# Altium integrated library Maxim Digital Potentiometers.IntLib: 1045 symbols (part 4 of 42)
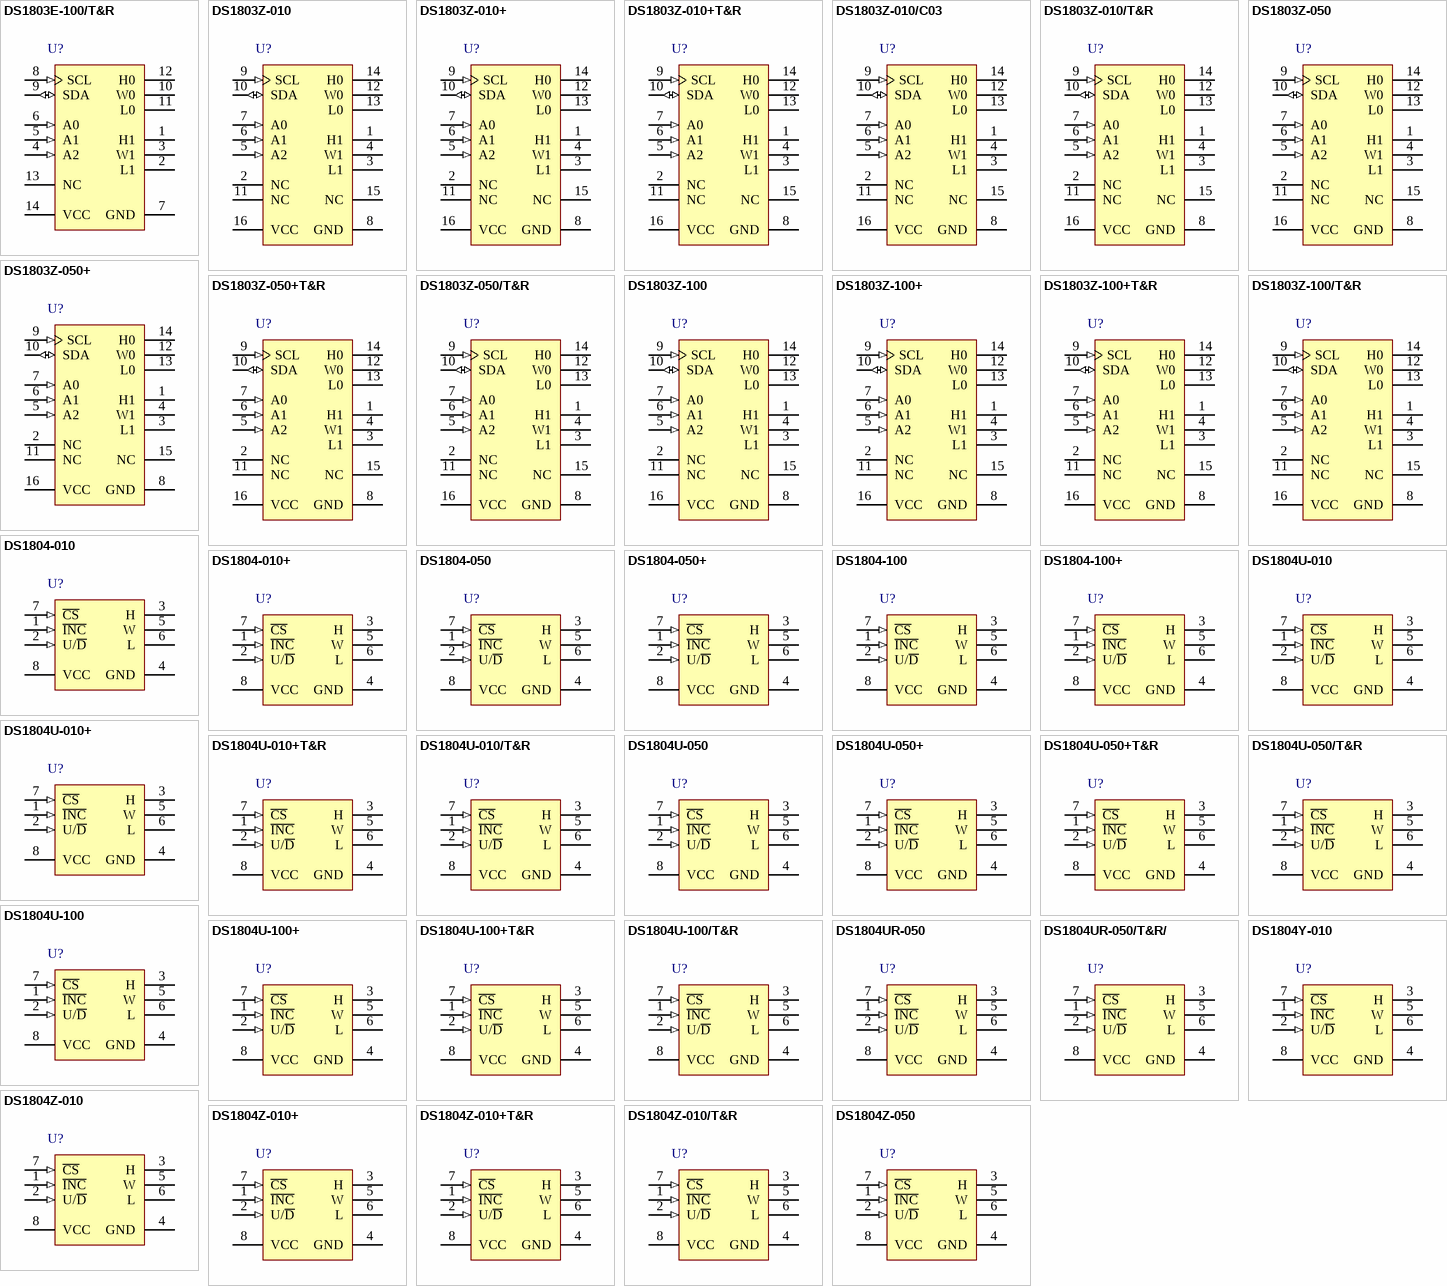
[diagram p32: symbols DS1803E-100/T&R to DS1804Z-050]

## DS1804U-050+
designator U?
NV Trimmer Potentiometer with Up/Down Control Interface, Non-Volatile, Linear Taper, 100 Steps, -40 to 85 degC, 8-pin uMAX (U8+3), Pb-Free; PartNumber: DS1804U-050+; DatasheetVersion: Rev. 6; PackageVersion: Rev. L, 08/2009; PackageReference: U8+3; PackageDescription: 8-Pin Micro-MAX, Thin Shrink Small-Outline (U8+3), Body 3 x 3 mm, Pitch 0.65 mm; Supplier 1: Digi-Key; Supplier Part Number 1: DS1804U-050+-ND; Supplier 2: Newark; Supplier Part Number 2: 32K5643; Supplier 3: Mouser; Supplier Part Number 3: 700-DS1804U-050; Control Interface: Up/Down; Features: EEPROM Wiper Memory; Mounting Technology: Surface Mount; Code_JEDEC: MO-187; ComponentLink1Description: Manufacturer URL; ComponentLink1URL: http://www.maximintegrated.com/; ComponentLink2Description: Datasheet; ComponentLink2URL: http://datasheets.maximintegrated.com/en/ds/DS1804.pdf; ComponentLink3Description: Package Specification; ComponentLink3URL: http://pdfserv.maximintegrated.com/package_dwgs/21-0036.PDF
footprint MAXM-U8+3_N (SOP, 8-Leads, Body 3x3mm, Pitch 0.65mm, IPC Medium Density)
footprint MAXM-U8+3_L (SOP, 8-Leads, Body 3x3mm, Pitch 0.65mm, IPC High Density)
footprint MAXM-U8+3_M (SOP, 8-Leads, Body 3x3mm, Pitch 0.65mm, IPC Low Density)
pins: 1 ~{INC} (in) "Increment/Decrement Wiper Control", 2 U/~{D} (in) "Up/Down Control", 3 H "High-Terminal of Potentiometer", 4 GND (power) "Ground", 5 W "Wiper of Potentiometer", 6 L "Low-Terminal of Potentiometer", 7 ~{CS} (in) "Chip Select", 8 VCC (power) "3V or 5V Power Supply"

## DS1804U-050+T&R
designator U?
NV Trimmer Potentiometer with Up/Down Control Interface, Non-Volatile, Linear Taper, 100 Steps, -40 to 85 degC, 8-pin uMAX (U8+3), Pb-Free, Tape and Reel; PartNumber: DS1804U-050+T&R; DatasheetVersion: Rev. 6; PackageVersion: Rev. L, 08/2009; PackageReference: U8+3; PackageDescription: 8-Pin Micro-MAX, Thin Shrink Small-Outline (U8+3), Body 3 x 3 mm, Pitch 0.65 mm; Supplier 1: Digi-Key; Supplier Part Number 1: DS1804U-050+T&R-ND; Supplier 2: Mouser; Supplier Part Number 2: 700-DS1804U-050T&R; Control Interface: Up/Down; Features: EEPROM Wiper Memory; Mounting Technology: Surface Mount; Code_JEDEC: MO-187; ComponentLink1Description: Manufacturer URL; ComponentLink1URL: http://www.maximintegrated.com/; ComponentLink2Description: Datasheet; ComponentLink2URL: http://datasheets.maximintegrated.com/en/ds/DS1804.pdf; ComponentLink3Description: Package Specification; ComponentLink3URL: http://pdfserv.maximintegrated.com/package_dwgs/21-0036.PDF
footprint MAXM-U8+3_N (SOP, 8-Leads, Body 3x3mm, Pitch 0.65mm, IPC Medium Density)
footprint MAXM-U8+3_L (SOP, 8-Leads, Body 3x3mm, Pitch 0.65mm, IPC High Density)
footprint MAXM-U8+3_M (SOP, 8-Leads, Body 3x3mm, Pitch 0.65mm, IPC Low Density)
pins: 1 ~{INC} (in) "Increment/Decrement Wiper Control", 2 U/~{D} (in) "Up/Down Control", 3 H "High-Terminal of Potentiometer", 4 GND (power) "Ground", 5 W "Wiper of Potentiometer", 6 L "Low-Terminal of Potentiometer", 7 ~{CS} (in) "Chip Select", 8 VCC (power) "3V or 5V Power Supply"

## DS1804U-050/T&R
designator U?
NV Trimmer Potentiometer with Up/Down Control Interface, Non-Volatile, Linear Taper, 100 Steps, -40 to 85 degC, 8-pin uMAX (U8-3), Tape and Reel; PartNumber: DS1804U-050/T&R; DatasheetVersion: Rev. 6; PackageVersion: Rev. L, 08/2009; PackageReference: U8-3; PackageDescription: 8-Pin Micro-MAX, Thin Shrink Small-Outline (U8-3), Body 3 x 3 mm, Pitch 0.65 mm; Supplier 1: Digi-Key; Supplier Part Number 1: DS1804U-050/T&R-ND; Supplier 2: Mouser; Supplier Part Number 2: N/A; Control Interface: Up/Down; Features: EEPROM Wiper Memory; Mounting Technology: Surface Mount; Code_JEDEC: MO-187; ComponentLink1Description: Manufacturer URL; ComponentLink1URL: http://www.maximintegrated.com/; ComponentLink2Description: Datasheet; ComponentLink2URL: http://datasheets.maximintegrated.com/en/ds/DS1804.pdf; ComponentLink3Description: Package Specification; ComponentLink3URL: http://pdfserv.maximintegrated.com/package_dwgs/21-0036.PDF
footprint MAXM-U8-3_N (SOP, 8-Leads, Body 3x3mm, Pitch 0.65mm, IPC Medium Density)
footprint MAXM-U8-3_L (SOP, 8-Leads, Body 3x3mm, Pitch 0.65mm, IPC High Density)
footprint MAXM-U8-3_M (SOP, 8-Leads, Body 3x3mm, Pitch 0.65mm, IPC Low Density)
pins: 1 ~{INC} (in) "Increment/Decrement Wiper Control", 2 U/~{D} (in) "Up/Down Control", 3 H "High-Terminal of Potentiometer", 4 GND (power) "Ground", 5 W "Wiper of Potentiometer", 6 L "Low-Terminal of Potentiometer", 7 ~{CS} (in) "Chip Select", 8 VCC (power) "3V or 5V Power Supply"

## DS1804U-100
designator U?
NV Trimmer Potentiometer with Up/Down Control Interface, Non-Volatile, Linear Taper, 100 Steps, -40 to 85 degC, 8-pin uMAX (U8-3); PartNumber: DS1804U-100; DatasheetVersion: Rev. 6; PackageVersion: Rev. L, 08/2009; PackageReference: U8-3; PackageDescription: 8-Pin Micro-MAX, Thin Shrink Small-Outline (U8-3), Body 3 x 3 mm, Pitch 0.65 mm; Supplier 1: Digi-Key; Supplier Part Number 1: DS1804U-100-ND; Supplier 2: Mouser; Supplier Part Number 2: N/A; Control Interface: Up/Down; Features: EEPROM Wiper Memory; Mounting Technology: Surface Mount; Code_JEDEC: MO-187; ComponentLink1Description: Manufacturer URL; ComponentLink1URL: http://www.maximintegrated.com/; ComponentLink2Description: Datasheet; ComponentLink2URL: http://datasheets.maximintegrated.com/en/ds/DS1804.pdf; ComponentLink3Description: Package Specification; ComponentLink3URL: http://pdfserv.maximintegrated.com/package_dwgs/21-0036.PDF
footprint MAXM-U8-3_N (SOP, 8-Leads, Body 3x3mm, Pitch 0.65mm, IPC Medium Density)
footprint MAXM-U8-3_L (SOP, 8-Leads, Body 3x3mm, Pitch 0.65mm, IPC High Density)
footprint MAXM-U8-3_M (SOP, 8-Leads, Body 3x3mm, Pitch 0.65mm, IPC Low Density)
pins: 1 ~{INC} (in) "Increment/Decrement Wiper Control", 2 U/~{D} (in) "Up/Down Control", 3 H "High-Terminal of Potentiometer", 4 GND (power) "Ground", 5 W "Wiper of Potentiometer", 6 L "Low-Terminal of Potentiometer", 7 ~{CS} (in) "Chip Select", 8 VCC (power) "3V or 5V Power Supply"

## DS1804U-100+
designator U?
NV Trimmer Potentiometer with Up/Down Control Interface, Non-Volatile, Linear Taper, 100 Steps, -40 to 85 degC, 8-pin uMAX (U8+1), Pb-Free; PartNumber: DS1804U-100+; DatasheetVersion: Rev. 6; PackageVersion: Rev. L, 08/2009; PackageReference: U8+1; PackageDescription: 8-Pin Micro-MAX, Thin Shrink Small-Outline (U8+1), Body 3 x 3 mm, Pitch 0.65 mm; Supplier 1: Digi-Key; Supplier Part Number 1: DS1804U-100+-ND; Supplier 2: Newark; Supplier Part Number 2: 73J0109; Supplier 3: Mouser; Supplier Part Number 3: 700-DS1804U-100; Control Interface: Up/Down; Features: EEPROM Wiper Memory; Mounting Technology: Surface Mount; Code_JEDEC: MO-187; ComponentLink1Description: Manufacturer URL; ComponentLink1URL: http://www.maximintegrated.com/; ComponentLink2Description: Datasheet; ComponentLink2URL: http://datasheets.maximintegrated.com/en/ds/DS1804.pdf; ComponentLink3Description: Package Specification; ComponentLink3URL: http://pdfserv.maximintegrated.com/package_dwgs/21-0036.PDF
footprint MAXM-U8+1_N (SOP, 8-Leads, Body 3x3mm, Pitch 0.65mm, IPC Medium Density)
footprint MAXM-U8+1_L (SOP, 8-Leads, Body 3x3mm, Pitch 0.65mm, IPC High Density)
footprint MAXM-U8+1_M (SOP, 8-Leads, Body 3x3mm, Pitch 0.65mm, IPC Low Density)
pins: 1 ~{INC} (in) "Increment/Decrement Wiper Control", 2 U/~{D} (in) "Up/Down Control", 3 H "High-Terminal of Potentiometer", 4 GND (power) "Ground", 5 W "Wiper of Potentiometer", 6 L "Low-Terminal of Potentiometer", 7 ~{CS} (in) "Chip Select", 8 VCC (power) "3V or 5V Power Supply"

## DS1804U-100+T&R
designator U?
NV Trimmer Potentiometer with Up/Down Control Interface, Non-Volatile, Linear Taper, 100 Steps, -40 to 85 degC, 8-pin uMAX (U8+1), Pb-Free, Tape and Reel; PartNumber: DS1804U-100+T&R; DatasheetVersion: Rev. 6; PackageVersion: Rev. L, 08/2009; PackageReference: U8+1; PackageDescription: 8-Pin Micro-MAX, Thin Shrink Small-Outline (U8+1), Body 3 x 3 mm, Pitch 0.65 mm; Supplier 1: Digi-Key; Supplier Part Number 1: DS1804U-100+T&R-ND; Supplier 2: Mouser; Supplier Part Number 2: 700-DS1804U-100T&R; Control Interface: Up/Down; Features: EEPROM Wiper Memory; Mounting Technology: Surface Mount; Code_JEDEC: MO-187; ComponentLink1Description: Manufacturer URL; ComponentLink1URL: http://www.maximintegrated.com/; ComponentLink2Description: Datasheet; ComponentLink2URL: http://datasheets.maximintegrated.com/en/ds/DS1804.pdf; ComponentLink3Description: Package Specification; ComponentLink3URL: http://pdfserv.maximintegrated.com/package_dwgs/21-0036.PDF
footprint MAXM-U8+1_N (SOP, 8-Leads, Body 3x3mm, Pitch 0.65mm, IPC Medium Density)
footprint MAXM-U8+1_L (SOP, 8-Leads, Body 3x3mm, Pitch 0.65mm, IPC High Density)
footprint MAXM-U8+1_M (SOP, 8-Leads, Body 3x3mm, Pitch 0.65mm, IPC Low Density)
pins: 1 ~{INC} (in) "Increment/Decrement Wiper Control", 2 U/~{D} (in) "Up/Down Control", 3 H "High-Terminal of Potentiometer", 4 GND (power) "Ground", 5 W "Wiper of Potentiometer", 6 L "Low-Terminal of Potentiometer", 7 ~{CS} (in) "Chip Select", 8 VCC (power) "3V or 5V Power Supply"

## DS1804U-100/T&R
designator U?
NV Trimmer Potentiometer with Up/Down Control Interface, Non-Volatile, Linear Taper, 100 Steps, -40 to 85 degC, 8-pin uMAX (U8-3), Tape and Reel; PartNumber: DS1804U-100/T&R; DatasheetVersion: Rev. 6; PackageVersion: Rev. L, 08/2009; PackageReference: U8-3; PackageDescription: 8-Pin Micro-MAX, Thin Shrink Small-Outline (U8-3), Body 3 x 3 mm, Pitch 0.65 mm; Supplier 1: Digi-Key; Supplier Part Number 1: DS1804U-100/T&R-ND; Supplier 2: Mouser; Supplier Part Number 2: 700-DS1804U-100/TRNR; Control Interface: Up/Down; Features: EEPROM Wiper Memory; Mounting Technology: Surface Mount; Code_JEDEC: MO-187; ComponentLink1Description: Manufacturer URL; ComponentLink1URL: http://www.maximintegrated.com/; ComponentLink2Description: Datasheet; ComponentLink2URL: http://datasheets.maximintegrated.com/en/ds/DS1804.pdf; ComponentLink3Description: Package Specification; ComponentLink3URL: http://pdfserv.maximintegrated.com/package_dwgs/21-0036.PDF
footprint MAXM-U8-3_N (SOP, 8-Leads, Body 3x3mm, Pitch 0.65mm, IPC Medium Density)
footprint MAXM-U8-3_L (SOP, 8-Leads, Body 3x3mm, Pitch 0.65mm, IPC High Density)
footprint MAXM-U8-3_M (SOP, 8-Leads, Body 3x3mm, Pitch 0.65mm, IPC Low Density)
pins: 1 ~{INC} (in) "Increment/Decrement Wiper Control", 2 U/~{D} (in) "Up/Down Control", 3 H "High-Terminal of Potentiometer", 4 GND (power) "Ground", 5 W "Wiper of Potentiometer", 6 L "Low-Terminal of Potentiometer", 7 ~{CS} (in) "Chip Select", 8 VCC (power) "3V or 5V Power Supply"

## DS1804UR-050
designator U?
NV Trimmer Potentiometer with Up/Down Control Interface, Non-Volatile, Linear Taper, 100 Steps, -40 to 85 degC, 8-pin uMAX (U8-1); PartNumber: DS1804UR-050; DatasheetVersion: Rev. 6; PackageVersion: Rev. L, 08/2009; PackageReference: U8-1; PackageDescription: 8-Pin Micro-MAX, Thin Shrink Small-Outline (U8-1), Body 3 x 3 mm, Pitch 0.65mm; Supplier 1: Digi-Key; Supplier Part Number 1: DS1804UR-050-ND; Supplier 2: Mouser; Supplier Part Number 2: N/A; Control Interface: Up/Down; Features: EEPROM Wiper Memory; Mounting Technology: Surface Mount; Code_JEDEC: MO-187; ComponentLink1Description: Manufacturer URL; ComponentLink1URL: http://www.maximintegrated.com/; ComponentLink2Description: Datasheet; ComponentLink2URL: http://datasheets.maximintegrated.com/en/ds/DS1804.pdf; ComponentLink3Description: Package Specification; ComponentLink3URL: http://pdfserv.maximintegrated.com/package_dwgs/21-0036.PDF
footprint MAXM-U8-1_N (SOP, 8-Leads, Body 3x3mm, Pitch 0.65mm, IPC Medium Density)
footprint MAXM-U8-1_L (SOP, 8-Leads, Body 3x3mm, Pitch 0.65mm, IPC High Density)
footprint MAXM-U8-1_M (SOP, 8-Leads, Body 3x3mm, Pitch 0.65mm, IPC Low Density)
pins: 1 ~{INC} (in) "Increment/Decrement Wiper Control", 2 U/~{D} (in) "Up/Down Control", 3 H "High-Terminal of Potentiometer", 4 GND (power) "Ground", 5 W "Wiper of Potentiometer", 6 L "Low-Terminal of Potentiometer", 7 ~{CS} (in) "Chip Select", 8 VCC (power) "3V or 5V Power Supply"

## DS1804UR-050/T&R/
designator U?
NV Trimmer Potentiometer with Up/Down Control Interface, Non-Volatile, Linear Taper, 100 Steps, -40 to 85 degC, 8-pin uMAX (U8-1), Tape and Reel; PartNumber: DS1804UR-050/T&R/; DatasheetVersion: Rev. 6; PackageVersion: Rev. L, 08/2009; PackageReference: U8-1; PackageDescription: 8-Pin Micro-MAX, Thin Shrink Small-Outline (U8-1), Body 3 x 3 mm, Pitch 0.65mm; Supplier 1: Mouser; Supplier Part Number 1: N/A; Control Interface: Up/Down; Features: EEPROM Wiper Memory; Mounting Technology: Surface Mount; Code_JEDEC: MO-187; ComponentLink1Description: Manufacturer URL; ComponentLink1URL: http://www.maximintegrated.com/; ComponentLink2Description: Datasheet; ComponentLink2URL: http://datasheets.maximintegrated.com/en/ds/DS1804.pdf; ComponentLink3Description: Package Specification; ComponentLink3URL: http://pdfserv.maximintegrated.com/package_dwgs/21-0036.PDF
footprint MAXM-U8-1_N (SOP, 8-Leads, Body 3x3mm, Pitch 0.65mm, IPC Medium Density)
footprint MAXM-U8-1_L (SOP, 8-Leads, Body 3x3mm, Pitch 0.65mm, IPC High Density)
footprint MAXM-U8-1_M (SOP, 8-Leads, Body 3x3mm, Pitch 0.65mm, IPC Low Density)
pins: 1 ~{INC} (in) "Increment/Decrement Wiper Control", 2 U/~{D} (in) "Up/Down Control", 3 H "High-Terminal of Potentiometer", 4 GND (power) "Ground", 5 W "Wiper of Potentiometer", 6 L "Low-Terminal of Potentiometer", 7 ~{CS} (in) "Chip Select", 8 VCC (power) "3V or 5V Power Supply"

## DS1804Y-010
designator U?
NV Trimmer Potentiometer with Up/Down Control Interface, Non-Volatile, Linear Taper, 100 Steps, -40 to 85 degC, 8-pin FCHIP (BF1522-1); PartNumber: DS1804Y-010; DatasheetVersion: Rev. 6; PackageVersion: Rev. A, 07/2008; PackageReference: BF1522-1; PackageDescription: 15-Pin Flip-Chip, Used for DS1804X (BF1522-1), Body 1.73 x 1.65 mm; Supplier 1: Mouser; Supplier Part Number 1: N/A; Control Interface: Up/Down; Features: EEPROM Wiper Memory; Mounting Technology: Surface Mount; ComponentLink1Description: Manufacturer URL; ComponentLink1URL: http://www.maximintegrated.com/; ComponentLink2Description: Datasheet; ComponentLink2URL: http://datasheets.maximintegrated.com/en/ds/DS1804.pdf; ComponentLink3Description: Package Specification; ComponentLink3URL: http://pdfserv.maximintegrated.com/package_dwgs/21-0286.PDF
footprint MAXM-BF1522-1 (BGA, 15-Balls, Body 1.73x1.65mm, Pitch 0.434mm)
pins: 1 ~{INC} (in) "Increment/Decrement Wiper Control", 2 U/~{D} (in) "Up/Down Control", 3 H "High-Terminal of Potentiometer", 4 GND (power) "Ground", 5 W "Wiper of Potentiometer", 6 L "Low-Terminal of Potentiometer", 7 ~{CS} (in) "Chip Select", 8 VCC (power) "3V or 5V Power Supply"

## DS1804Z-010
designator U?
NV Trimmer Potentiometer with Up/Down Control Interface, Non-Volatile, Linear Taper, 100 Steps, -40 to 85 degC, 8-pin SOIC (S8-2); PartNumber: DS1804Z-010; DatasheetVersion: Rev. 6; PackageVersion: Rev. D, 10/2012; PackageReference: S8-2; PackageDescription: 8-Pin Small-Outline IC, Narrow (0.15in) (S8-2), Body 4.90 x 3.90 mm, Pitch 1.27 mm; Supplier 1: Digi-Key; Supplier Part Number 1: DS1804Z-010-ND; Supplier 2: Mouser; Supplier Part Number 2: N/A; Control Interface: Up/Down; Features: EEPROM Wiper Memory; Mounting Technology: Surface Mount; Code_JEDEC: MS012; ComponentLink1Description: Manufacturer URL; ComponentLink1URL: http://www.maximintegrated.com/; ComponentLink2Description: Datasheet; ComponentLink2URL: http://datasheets.maximintegrated.com/en/ds/DS1804.pdf; ComponentLink3Description: Package Specification; ComponentLink3URL: http://pdfserv.maximintegrated.com/package_dwgs/21-0041.PDF
footprint MAXM-S8-2_N (SOIC, 8-Leads, Body 4.90x3.90mm, Pitch 1.27mm, IPC Medium Density)
footprint MAXM-S8-2_L (SOIC, 8-Leads, Body 4.90x3.90mm, Pitch 1.27mm, IPC High Density)
footprint MAXM-S8-2_M (SOIC, 8-Leads, Body 4.90x3.90mm, Pitch 1.27mm, IPC Low Density)
pins: 1 ~{INC} (in) "Increment/Decrement Wiper Control", 2 U/~{D} (in) "Up/Down Control", 3 H "High-Terminal of Potentiometer", 4 GND (power) "Ground", 5 W "Wiper of Potentiometer", 6 L "Low-Terminal of Potentiometer", 7 ~{CS} (in) "Chip Select", 8 VCC (power) "3V or 5V Power Supply"

## DS1804Z-010+
designator U?
NV Trimmer Potentiometer with Up/Down Control Interface, Non-Volatile, Linear Taper, 100 Steps, -40 to 85 degC, 8-pin SOIC (S8+2), Pb-Free; PartNumber: DS1804Z-010+; DatasheetVersion: Rev. 6; PackageVersion: Rev. D, 10/2012; PackageReference: S8+2; PackageDescription: 8-Pin Small-Outline IC, Narrow (0.15in) (S8+2), Body 4.90 x 3.90 mm, Pitch 1.27 mm; Supplier 1: Digi-Key; Supplier Part Number 1: DS1804Z-010+-ND; Supplier 2: Farnell; Supplier Part Number 2: 9725296; Supplier 3: Newark; Supplier Part Number 3: 96K8891; Supplier 4: Newark; Supplier Part Number 4: 88H0425; Supplier 5: Mouser; Supplier Part Number 5: 700-DS1804Z-010; Control Interface: Up/Down; Features: EEPROM Wiper Memory; Mounting Technology: Surface Mount; Code_JEDEC: MS012; ComponentLink1Description: Manufacturer URL; ComponentLink1URL: http://www.maximintegrated.com/; ComponentLink2Description: Datasheet; ComponentLink2URL: http://datasheets.maximintegrated.com/en/ds/DS1804.pdf; ComponentLink3Description: Package Specification; ComponentLink3URL: http://pdfserv.maximintegrated.com/package_dwgs/21-0041.PDF
footprint MAXM-S8+2_N (SOIC, 8-Leads, Body 4.90x3.90mm, Pitch 1.27mm, IPC Medium Density)
footprint MAXM-S8+2_L (SOIC, 8-Leads, Body 4.90x3.90mm, Pitch 1.27mm, IPC High Density)
footprint MAXM-S8+2_M (SOIC, 8-Leads, Body 4.90x3.90mm, Pitch 1.27mm, IPC Low Density)
pins: 1 ~{INC} (in) "Increment/Decrement Wiper Control", 2 U/~{D} (in) "Up/Down Control", 3 H "High-Terminal of Potentiometer", 4 GND (power) "Ground", 5 W "Wiper of Potentiometer", 6 L "Low-Terminal of Potentiometer", 7 ~{CS} (in) "Chip Select", 8 VCC (power) "3V or 5V Power Supply"

## DS1804Z-010+T&R
designator U?
NV Trimmer Potentiometer with Up/Down Control Interface, Non-Volatile, Linear Taper, 100 Steps, -40 to 85 degC, 8-pin SOIC (S8+2), Pb-Free, Tape and Reel; PartNumber: DS1804Z-010+T&R; DatasheetVersion: Rev. 6; PackageVersion: Rev. D, 10/2012; PackageReference: S8+2; PackageDescription: 8-Pin Small-Outline IC, Narrow (0.15in) (S8+2), Body 4.90 x 3.90 mm, Pitch 1.27 mm; Supplier 1: Digi-Key; Supplier Part Number 1: DS1804Z-010+T&RTR-ND; Supplier 2: Digi-Key; Supplier Part Number 2: DS1804Z-010+T&RCT-ND; Supplier 3: Digi-Key; Supplier Part Number 3: DS1804Z-010+T&RDKR-ND; Supplier 4: Mouser; Supplier Part Number 4: 700-DS1804Z-010T&R; Control Interface: Up/Down; Features: EEPROM Wiper Memory; Mounting Technology: Surface Mount; Code_JEDEC: MS012; ComponentLink1Description: Manufacturer URL; ComponentLink1URL: http://www.maximintegrated.com/; ComponentLink2Description: Datasheet; ComponentLink2URL: http://datasheets.maximintegrated.com/en/ds/DS1804.pdf; ComponentLink3Description: Package Specification; ComponentLink3URL: http://pdfserv.maximintegrated.com/package_dwgs/21-0041.PDF
footprint MAXM-S8+2_N (SOIC, 8-Leads, Body 4.90x3.90mm, Pitch 1.27mm, IPC Medium Density)
footprint MAXM-S8+2_L (SOIC, 8-Leads, Body 4.90x3.90mm, Pitch 1.27mm, IPC High Density)
footprint MAXM-S8+2_M (SOIC, 8-Leads, Body 4.90x3.90mm, Pitch 1.27mm, IPC Low Density)
pins: 1 ~{INC} (in) "Increment/Decrement Wiper Control", 2 U/~{D} (in) "Up/Down Control", 3 H "High-Terminal of Potentiometer", 4 GND (power) "Ground", 5 W "Wiper of Potentiometer", 6 L "Low-Terminal of Potentiometer", 7 ~{CS} (in) "Chip Select", 8 VCC (power) "3V or 5V Power Supply"

## DS1804Z-010/T&R
designator U?
NV Trimmer Potentiometer with Up/Down Control Interface, Non-Volatile, Linear Taper, 100 Steps, -40 to 85 degC, 8-pin SOIC (S8-2), Tape and Reel; PartNumber: DS1804Z-010/T&R; DatasheetVersion: Rev. 6; PackageVersion: Rev. D, 10/2012; PackageReference: S8-2; PackageDescription: 8-Pin Small-Outline IC, Narrow (0.15in) (S8-2), Body 4.90 x 3.90 mm, Pitch 1.27 mm; Supplier 1: Digi-Key; Supplier Part Number 1: DS1804Z-010/T&R-ND; Supplier 2: Mouser; Supplier Part Number 2: 700-DS1804Z-010/TRNR; Control Interface: Up/Down; Features: EEPROM Wiper Memory; Mounting Technology: Surface Mount; Code_JEDEC: MS012; ComponentLink1Description: Manufacturer URL; ComponentLink1URL: http://www.maximintegrated.com/; ComponentLink2Description: Datasheet; ComponentLink2URL: http://datasheets.maximintegrated.com/en/ds/DS1804.pdf; ComponentLink3Description: Package Specification; ComponentLink3URL: http://pdfserv.maximintegrated.com/package_dwgs/21-0041.PDF
footprint MAXM-S8-2_N (SOIC, 8-Leads, Body 4.90x3.90mm, Pitch 1.27mm, IPC Medium Density)
footprint MAXM-S8-2_L (SOIC, 8-Leads, Body 4.90x3.90mm, Pitch 1.27mm, IPC High Density)
footprint MAXM-S8-2_M (SOIC, 8-Leads, Body 4.90x3.90mm, Pitch 1.27mm, IPC Low Density)
pins: 1 ~{INC} (in) "Increment/Decrement Wiper Control", 2 U/~{D} (in) "Up/Down Control", 3 H "High-Terminal of Potentiometer", 4 GND (power) "Ground", 5 W "Wiper of Potentiometer", 6 L "Low-Terminal of Potentiometer", 7 ~{CS} (in) "Chip Select", 8 VCC (power) "3V or 5V Power Supply"

## DS1804Z-050
designator U?
NV Trimmer Potentiometer with Up/Down Control Interface, Non-Volatile, Linear Taper, 100 Steps, -40 to 85 degC, 8-pin SOIC (S8-2); PartNumber: DS1804Z-050; DatasheetVersion: Rev. 6; PackageVersion: Rev. D, 10/2012; PackageReference: S8-2; PackageDescription: 8-Pin Small-Outline IC, Narrow (0.15in) (S8-2), Body 4.90 x 3.90 mm, Pitch 1.27 mm; Supplier 1: Digi-Key; Supplier Part Number 1: DS1804Z-050-ND; Supplier 2: Mouser; Supplier Part Number 2: N/A; Control Interface: Up/Down; Features: EEPROM Wiper Memory; Mounting Technology: Surface Mount; Code_JEDEC: MS012; ComponentLink1Description: Manufacturer URL; ComponentLink1URL: http://www.maximintegrated.com/; ComponentLink2Description: Datasheet; ComponentLink2URL: http://datasheets.maximintegrated.com/en/ds/DS1804.pdf; ComponentLink3Description: Package Specification; ComponentLink3URL: http://pdfserv.maximintegrated.com/package_dwgs/21-0041.PDF
footprint MAXM-S8-2_N (SOIC, 8-Leads, Body 4.90x3.90mm, Pitch 1.27mm, IPC Medium Density)
footprint MAXM-S8-2_L (SOIC, 8-Leads, Body 4.90x3.90mm, Pitch 1.27mm, IPC High Density)
footprint MAXM-S8-2_M (SOIC, 8-Leads, Body 4.90x3.90mm, Pitch 1.27mm, IPC Low Density)
pins: 1 ~{INC} (in) "Increment/Decrement Wiper Control", 2 U/~{D} (in) "Up/Down Control", 3 H "High-Terminal of Potentiometer", 4 GND (power) "Ground", 5 W "Wiper of Potentiometer", 6 L "Low-Terminal of Potentiometer", 7 ~{CS} (in) "Chip Select", 8 VCC (power) "3V or 5V Power Supply"

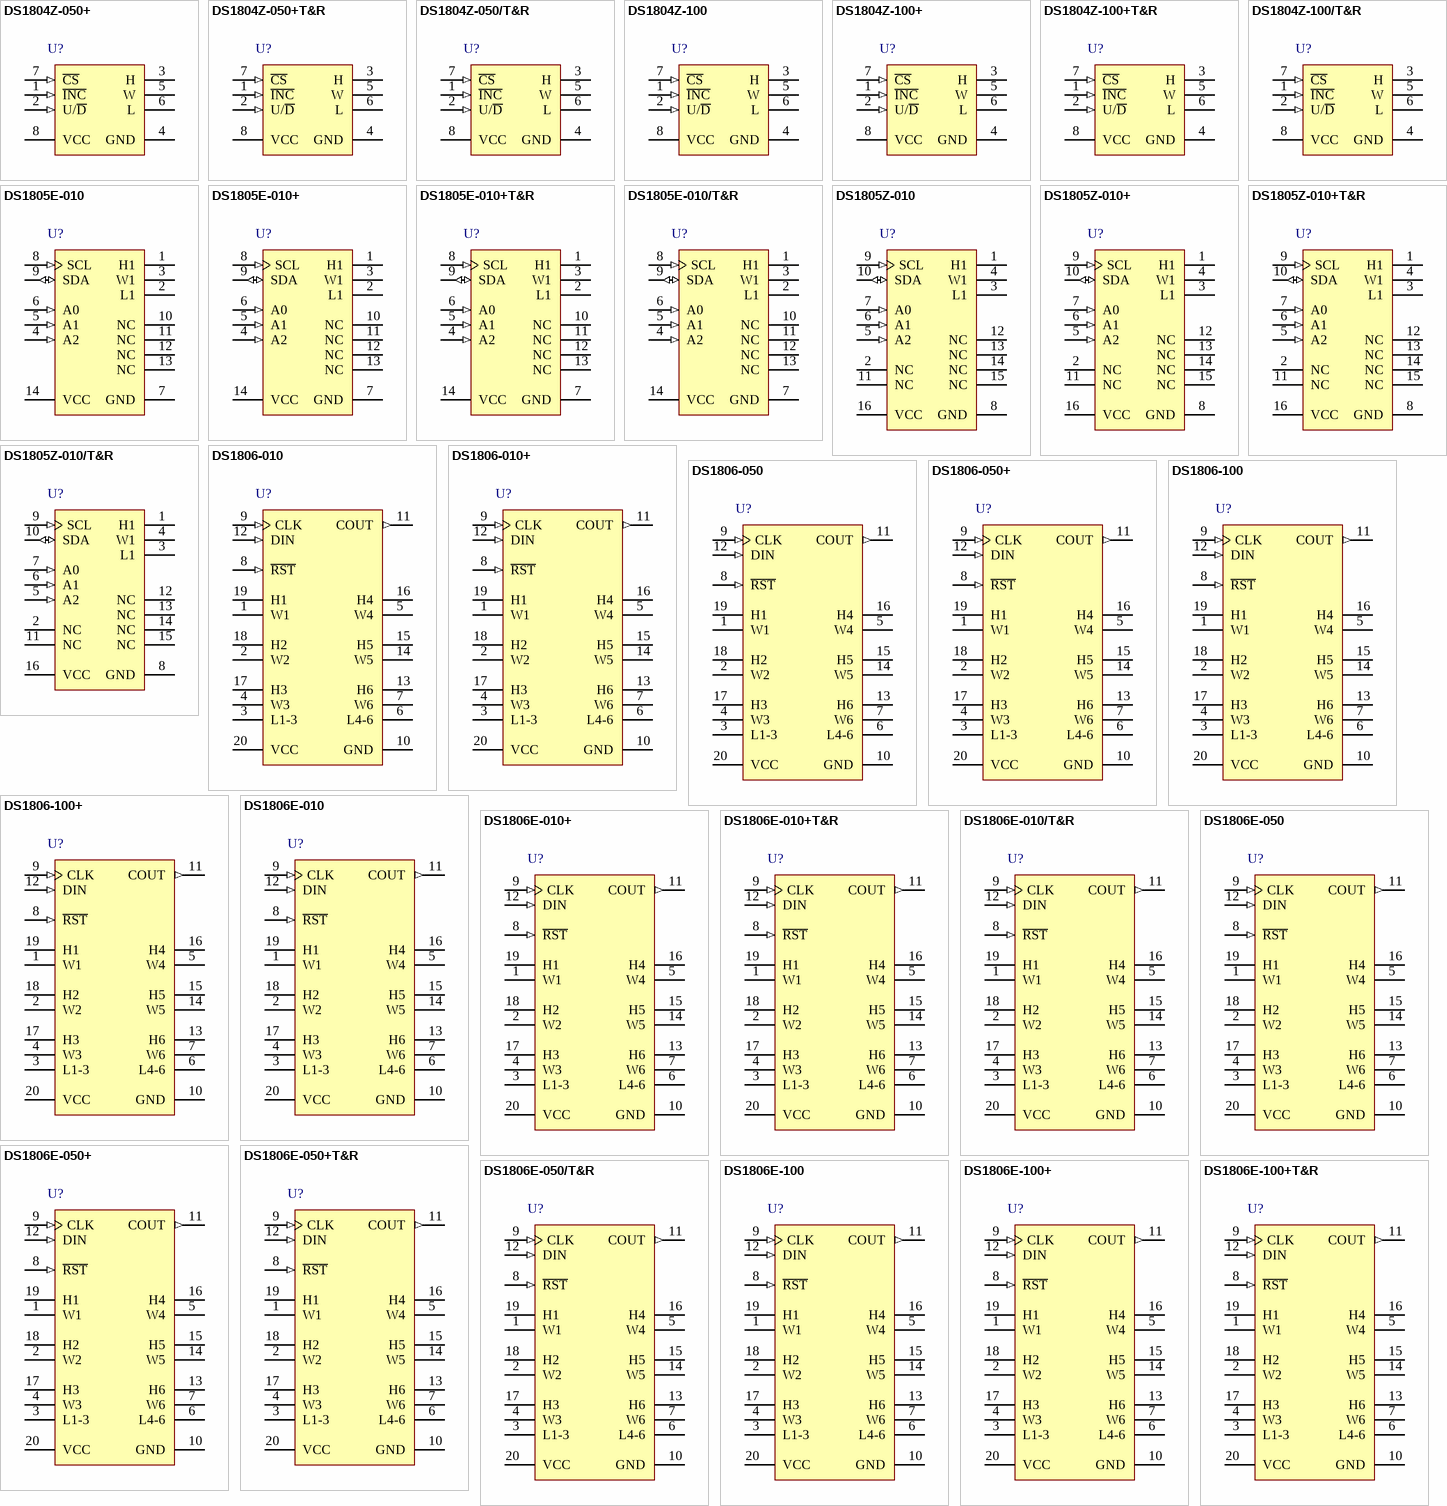
[diagram p3: symbols DS1804Z-050+ to DS1806E-100+T&R]

## DS1804Z-050+
designator U?
NV Trimmer Potentiometer with Up/Down Control Interface, Non-Volatile, Linear Taper, 100 Steps, -40 to 85 degC, 8-pin SOIC (S8+2), Pb-Free; PartNumber: DS1804Z-050+; DatasheetVersion: Rev. 6; PackageVersion: Rev. D, 10/2012; PackageReference: S8+2; PackageDescription: 8-Pin Small-Outline IC, Narrow (0.15in) (S8+2), Body 4.90 x 3.90 mm, Pitch 1.27 mm; Supplier 1: Digi-Key; Supplier Part Number 1: DS1804Z-050+-ND; Supplier 2: Mouser; Supplier Part Number 2: 700-DS1804Z-050; Control Interface: Up/Down; Features: EEPROM Wiper Memory; Mounting Technology: Surface Mount; Code_JEDEC: MS012; ComponentLink1Description: Manufacturer URL; ComponentLink1URL: http://www.maximintegrated.com/; ComponentLink2Description: Datasheet; ComponentLink2URL: http://datasheets.maximintegrated.com/en/ds/DS1804.pdf; ComponentLink3Description: Package Specification; ComponentLink3URL: http://pdfserv.maximintegrated.com/package_dwgs/21-0041.PDF
footprint MAXM-S8+2_N (SOIC, 8-Leads, Body 4.90x3.90mm, Pitch 1.27mm, IPC Medium Density)
footprint MAXM-S8+2_L (SOIC, 8-Leads, Body 4.90x3.90mm, Pitch 1.27mm, IPC High Density)
footprint MAXM-S8+2_M (SOIC, 8-Leads, Body 4.90x3.90mm, Pitch 1.27mm, IPC Low Density)
pins: 1 ~{INC} (in) "Increment/Decrement Wiper Control", 2 U/~{D} (in) "Up/Down Control", 3 H "High-Terminal of Potentiometer", 4 GND (power) "Ground", 5 W "Wiper of Potentiometer", 6 L "Low-Terminal of Potentiometer", 7 ~{CS} (in) "Chip Select", 8 VCC (power) "3V or 5V Power Supply"

## DS1804Z-050+T&R
designator U?
NV Trimmer Potentiometer with Up/Down Control Interface, Non-Volatile, Linear Taper, 100 Steps, -40 to 85 degC, 8-pin SOIC (S8+2), Pb-Free, Tape and Reel; PartNumber: DS1804Z-050+T&R; DatasheetVersion: Rev. 6; PackageVersion: Rev. D, 10/2012; PackageReference: S8+2; PackageDescription: 8-Pin Small-Outline IC, Narrow (0.15in) (S8+2), Body 4.90 x 3.90 mm, Pitch 1.27 mm; Supplier 1: Digi-Key; Supplier Part Number 1: DS1804Z-050+T&R-ND; Supplier 2: Mouser; Supplier Part Number 2: 700-DS1804Z-050T&R; Control Interface: Up/Down; Features: EEPROM Wiper Memory; Mounting Technology: Surface Mount; Code_JEDEC: MS012; ComponentLink1Description: Manufacturer URL; ComponentLink1URL: http://www.maximintegrated.com/; ComponentLink2Description: Datasheet; ComponentLink2URL: http://datasheets.maximintegrated.com/en/ds/DS1804.pdf; ComponentLink3Description: Package Specification; ComponentLink3URL: http://pdfserv.maximintegrated.com/package_dwgs/21-0041.PDF
footprint MAXM-S8+2_N (SOIC, 8-Leads, Body 4.90x3.90mm, Pitch 1.27mm, IPC Medium Density)
footprint MAXM-S8+2_L (SOIC, 8-Leads, Body 4.90x3.90mm, Pitch 1.27mm, IPC High Density)
footprint MAXM-S8+2_M (SOIC, 8-Leads, Body 4.90x3.90mm, Pitch 1.27mm, IPC Low Density)
pins: 1 ~{INC} (in) "Increment/Decrement Wiper Control", 2 U/~{D} (in) "Up/Down Control", 3 H "High-Terminal of Potentiometer", 4 GND (power) "Ground", 5 W "Wiper of Potentiometer", 6 L "Low-Terminal of Potentiometer", 7 ~{CS} (in) "Chip Select", 8 VCC (power) "3V or 5V Power Supply"

## DS1804Z-050/T&R
designator U?
NV Trimmer Potentiometer with Up/Down Control Interface, Non-Volatile, Linear Taper, 100 Steps, -40 to 85 degC, 8-pin SOIC (S8-2), Tape and Reel; PartNumber: DS1804Z-050/T&R; DatasheetVersion: Rev. 6; PackageVersion: Rev. D, 10/2012; PackageReference: S8-2; PackageDescription: 8-Pin Small-Outline IC, Narrow (0.15in) (S8-2), Body 4.90 x 3.90 mm, Pitch 1.27 mm; Supplier 1: Digi-Key; Supplier Part Number 1: DS1804Z-050/T&R-ND; Supplier 2: Mouser; Supplier Part Number 2: N/A; Control Interface: Up/Down; Features: EEPROM Wiper Memory; Mounting Technology: Surface Mount; Code_JEDEC: MS012; ComponentLink1Description: Manufacturer URL; ComponentLink1URL: http://www.maximintegrated.com/; ComponentLink2Description: Datasheet; ComponentLink2URL: http://datasheets.maximintegrated.com/en/ds/DS1804.pdf; ComponentLink3Description: Package Specification; ComponentLink3URL: http://pdfserv.maximintegrated.com/package_dwgs/21-0041.PDF
footprint MAXM-S8-2_N (SOIC, 8-Leads, Body 4.90x3.90mm, Pitch 1.27mm, IPC Medium Density)
footprint MAXM-S8-2_L (SOIC, 8-Leads, Body 4.90x3.90mm, Pitch 1.27mm, IPC High Density)
footprint MAXM-S8-2_M (SOIC, 8-Leads, Body 4.90x3.90mm, Pitch 1.27mm, IPC Low Density)
pins: 1 ~{INC} (in) "Increment/Decrement Wiper Control", 2 U/~{D} (in) "Up/Down Control", 3 H "High-Terminal of Potentiometer", 4 GND (power) "Ground", 5 W "Wiper of Potentiometer", 6 L "Low-Terminal of Potentiometer", 7 ~{CS} (in) "Chip Select", 8 VCC (power) "3V or 5V Power Supply"

## DS1804Z-100
designator U?
NV Trimmer Potentiometer with Up/Down Control Interface, Non-Volatile, Linear Taper, 100 Steps, -40 to 85 degC, 8-pin SOIC (S8-2); PartNumber: DS1804Z-100; DatasheetVersion: Rev. 6; PackageVersion: Rev. D, 10/2012; PackageReference: S8-2; PackageDescription: 8-Pin Small-Outline IC, Narrow (0.15in) (S8-2), Body 4.90 x 3.90 mm, Pitch 1.27 mm; Supplier 1: Digi-Key; Supplier Part Number 1: DS1804Z-100-ND; Supplier 2: Mouser; Supplier Part Number 2: N/A; Control Interface: Up/Down; Features: EEPROM Wiper Memory; Mounting Technology: Surface Mount; Code_JEDEC: MS012; ComponentLink1Description: Manufacturer URL; ComponentLink1URL: http://www.maximintegrated.com/; ComponentLink2Description: Datasheet; ComponentLink2URL: http://datasheets.maximintegrated.com/en/ds/DS1804.pdf; ComponentLink3Description: Package Specification; ComponentLink3URL: http://pdfserv.maximintegrated.com/package_dwgs/21-0041.PDF
footprint MAXM-S8-2_N (SOIC, 8-Leads, Body 4.90x3.90mm, Pitch 1.27mm, IPC Medium Density)
footprint MAXM-S8-2_L (SOIC, 8-Leads, Body 4.90x3.90mm, Pitch 1.27mm, IPC High Density)
footprint MAXM-S8-2_M (SOIC, 8-Leads, Body 4.90x3.90mm, Pitch 1.27mm, IPC Low Density)
pins: 1 ~{INC} (in) "Increment/Decrement Wiper Control", 2 U/~{D} (in) "Up/Down Control", 3 H "High-Terminal of Potentiometer", 4 GND (power) "Ground", 5 W "Wiper of Potentiometer", 6 L "Low-Terminal of Potentiometer", 7 ~{CS} (in) "Chip Select", 8 VCC (power) "3V or 5V Power Supply"

## DS1804Z-100+
designator U?
NV Trimmer Potentiometer with Up/Down Control Interface, Non-Volatile, Linear Taper, 100 Steps, -40 to 85 degC, 8-pin SOIC (S8+2), Pb-Free; PartNumber: DS1804Z-100+; DatasheetVersion: Rev. 6; PackageVersion: Rev. D, 10/2012; PackageReference: S8+2; PackageDescription: 8-Pin Small-Outline IC, Narrow (0.15in) (S8+2), Body 4.90 x 3.90 mm, Pitch 1.27 mm; Supplier 1: Digi-Key; Supplier Part Number 1: DS1804Z-100+-ND; Supplier 2: Newark; Supplier Part Number 2: 27K7452; Supplier 3: Mouser; Supplier Part Number 3: 700-DS1804Z-100; Control Interface: Up/Down; Features: EEPROM Wiper Memory; Mounting Technology: Surface Mount; Code_JEDEC: MS012; ComponentLink1Description: Manufacturer URL; ComponentLink1URL: http://www.maximintegrated.com/; ComponentLink2Description: Datasheet; ComponentLink2URL: http://datasheets.maximintegrated.com/en/ds/DS1804.pdf; ComponentLink3Description: Package Specification; ComponentLink3URL: http://pdfserv.maximintegrated.com/package_dwgs/21-0041.PDF
footprint MAXM-S8+2_N (SOIC, 8-Leads, Body 4.90x3.90mm, Pitch 1.27mm, IPC Medium Density)
footprint MAXM-S8+2_L (SOIC, 8-Leads, Body 4.90x3.90mm, Pitch 1.27mm, IPC High Density)
footprint MAXM-S8+2_M (SOIC, 8-Leads, Body 4.90x3.90mm, Pitch 1.27mm, IPC Low Density)
pins: 1 ~{INC} (in) "Increment/Decrement Wiper Control", 2 U/~{D} (in) "Up/Down Control", 3 H "High-Terminal of Potentiometer", 4 GND (power) "Ground", 5 W "Wiper of Potentiometer", 6 L "Low-Terminal of Potentiometer", 7 ~{CS} (in) "Chip Select", 8 VCC (power) "3V or 5V Power Supply"

## DS1804Z-100+T&R
designator U?
NV Trimmer Potentiometer with Up/Down Control Interface, Non-Volatile, Linear Taper, 100 Steps, -40 to 85 degC, 8-pin SOIC (S8+2), Pb-Free, Tape and Reel; PartNumber: DS1804Z-100+T&R; DatasheetVersion: Rev. 6; PackageVersion: Rev. D, 10/2012; PackageReference: S8+2; PackageDescription: 8-Pin Small-Outline IC, Narrow (0.15in) (S8+2), Body 4.90 x 3.90 mm, Pitch 1.27 mm; Supplier 1: Digi-Key; Supplier Part Number 1: DS1804Z-100+T&R-ND; Supplier 2: Mouser; Supplier Part Number 2: 700-DS1804Z-100T&R; Control Interface: Up/Down; Features: EEPROM Wiper Memory; Mounting Technology: Surface Mount; Code_JEDEC: MS012; ComponentLink1Description: Manufacturer URL; ComponentLink1URL: http://www.maximintegrated.com/; ComponentLink2Description: Datasheet; ComponentLink2URL: http://datasheets.maximintegrated.com/en/ds/DS1804.pdf; ComponentLink3Description: Package Specification; ComponentLink3URL: http://pdfserv.maximintegrated.com/package_dwgs/21-0041.PDF
footprint MAXM-S8+2_N (SOIC, 8-Leads, Body 4.90x3.90mm, Pitch 1.27mm, IPC Medium Density)
footprint MAXM-S8+2_L (SOIC, 8-Leads, Body 4.90x3.90mm, Pitch 1.27mm, IPC High Density)
footprint MAXM-S8+2_M (SOIC, 8-Leads, Body 4.90x3.90mm, Pitch 1.27mm, IPC Low Density)
pins: 1 ~{INC} (in) "Increment/Decrement Wiper Control", 2 U/~{D} (in) "Up/Down Control", 3 H "High-Terminal of Potentiometer", 4 GND (power) "Ground", 5 W "Wiper of Potentiometer", 6 L "Low-Terminal of Potentiometer", 7 ~{CS} (in) "Chip Select", 8 VCC (power) "3V or 5V Power Supply"

## DS1804Z-100/T&R
designator U?
NV Trimmer Potentiometer with Up/Down Control Interface, Non-Volatile, Linear Taper, 100 Steps, -40 to 85 degC, 8-pin SOIC (S8-2), Tape and Reel; PartNumber: DS1804Z-100/T&R; DatasheetVersion: Rev. 6; PackageVersion: Rev. D, 10/2012; PackageReference: S8-2; PackageDescription: 8-Pin Small-Outline IC, Narrow (0.15in) (S8-2), Body 4.90 x 3.90 mm, Pitch 1.27 mm; Supplier 1: Mouser; Supplier Part Number 1: N/A; Control Interface: Up/Down; Features: EEPROM Wiper Memory; Mounting Technology: Surface Mount; Code_JEDEC: MS012; ComponentLink1Description: Manufacturer URL; ComponentLink1URL: http://www.maximintegrated.com/; ComponentLink2Description: Datasheet; ComponentLink2URL: http://datasheets.maximintegrated.com/en/ds/DS1804.pdf; ComponentLink3Description: Package Specification; ComponentLink3URL: http://pdfserv.maximintegrated.com/package_dwgs/21-0041.PDF
footprint MAXM-S8-2_N (SOIC, 8-Leads, Body 4.90x3.90mm, Pitch 1.27mm, IPC Medium Density)
footprint MAXM-S8-2_L (SOIC, 8-Leads, Body 4.90x3.90mm, Pitch 1.27mm, IPC High Density)
footprint MAXM-S8-2_M (SOIC, 8-Leads, Body 4.90x3.90mm, Pitch 1.27mm, IPC Low Density)
pins: 1 ~{INC} (in) "Increment/Decrement Wiper Control", 2 U/~{D} (in) "Up/Down Control", 3 H "High-Terminal of Potentiometer", 4 GND (power) "Ground", 5 W "Wiper of Potentiometer", 6 L "Low-Terminal of Potentiometer", 7 ~{CS} (in) "Chip Select", 8 VCC (power) "3V or 5V Power Supply"

## DS1805E-010
designator U?
Addressable Digital Potentiometer with 2-Wire Addressable Control Interface, Volatile, Linear Taper, 256 Steps, -40 to 85 degC, 14-pin TSSOP (U14-1); PartNumber: DS1805E-010; DatasheetVersion: Rev. 1; PackageVersion: Rev. L, 07/2010; PackageReference: U14-1; PackageDescription: 14-Pin Thin Shrink Small-Outline Package (U14-1), Body 5 x 4.4 mm, Pitch 0.65 mm; Supplier 1: Digi-Key; Supplier Part Number 1: DS1805E-010-ND; Supplier 2: Mouser; Supplier Part Number 2: N/A; Control Interface: 2-Wire Addressable; Mounting Technology: Surface Mount; Code_JEDEC: MO-153; ComponentLink1Description: Manufacturer URL; ComponentLink1URL: http://www.maximintegrated.com/; ComponentLink2Description: Datasheet; ComponentLink2URL: http://datasheets.maximintegrated.com/en/ds/DS1805.pdf; ComponentLink3Description: Package Specification; ComponentLink3URL: http://pdfserv.maximintegrated.com/package_dwgs/21-0066.PDF
footprint MAXM-U14-1_N (SOP, 14-Leads, Body 5x4.4mm, Pitch 0.65mm, IPC Medium Density)
footprint MAXM-U14-1_L (SOP, 14-Leads, Body 5x4.4mm, Pitch 0.65mm, IPC High Density)
footprint MAXM-U14-1_M (SOP, 14-Leads, Body 5x4.4mm, Pitch 0.65mm, IPC Low Density)
pins: 1 H1 "High End of Potentiometer", 2 L1 "Low End of Potentiometer", 3 W1 "Wiper Terminal of Potentiometer", 4 A2 (in) "Address Select Input", 5 A1 (in) "Address Select Input", 6 A0 (in) "Address Select Input", 7 GND (power) "Ground", 8 SCL (in) "Serial Clock Input", 9 SDA (io) "Serial Data I/O", 10 NC "No Connection", 11 NC "No Connection", 12 NC "No Connection", 13 NC "No Connection", 14 VCC (power) "3V/5V Power-Supply Input"

## DS1805E-010+
designator U?
Addressable Digital Potentiometer with 2-Wire Addressable Control Interface, Volatile, Linear Taper, 256 Steps, -40 to 85 degC, 14-pin TSSOP (U14+1), Pb-free; PartNumber: DS1805E-010+; DatasheetVersion: Rev. 1; PackageVersion: Rev. L, 07/2010; PackageReference: U14+1; PackageDescription: 14-Pin Thin Shrink Small-Outline Package (U14+1), Body 5 x 4.4 mm, Pitch 0.65 mm; Supplier 1: Digi-Key; Supplier Part Number 1: DS1805E-010+-ND; Supplier 2: Mouser; Supplier Part Number 2: 700-DS1805E-010; Control Interface: 2-Wire Addressable; Mounting Technology: Surface Mount; Code_JEDEC: MO-153; ComponentLink1Description: Manufacturer URL; ComponentLink1URL: http://www.maximintegrated.com/; ComponentLink2Description: Datasheet; ComponentLink2URL: http://datasheets.maximintegrated.com/en/ds/DS1805.pdf; ComponentLink3Description: Package Specification; ComponentLink3URL: http://pdfserv.maximintegrated.com/package_dwgs/21-0066.PDF
footprint MAXM-U14+1_N (SOP, 14-Leads, Body 5x4.4mm, Pitch 0.65mm, IPC Medium Density)
footprint MAXM-U14+1_L (SOP, 14-Leads, Body 5x4.4mm, Pitch 0.65mm, IPC High Density)
footprint MAXM-U14+1_M (SOP, 14-Leads, Body 5x4.4mm, Pitch 0.65mm, IPC Low Density)
pins: 1 H1 "High End of Potentiometer", 2 L1 "Low End of Potentiometer", 3 W1 "Wiper Terminal of Potentiometer", 4 A2 (in) "Address Select Input", 5 A1 (in) "Address Select Input", 6 A0 (in) "Address Select Input", 7 GND (power) "Ground", 8 SCL (in) "Serial Clock Input", 9 SDA (io) "Serial Data I/O", 10 NC "No Connection", 11 NC "No Connection", 12 NC "No Connection", 13 NC "No Connection", 14 VCC (power) "3V/5V Power-Supply Input"

## DS1805E-010+T&R
designator U?
Digital Potentiometer with 2-Wire Addressable Control Interface, Volatile, Linear Taper, 256 Steps, -40 to 85 degC, 14-pin TSSOP (U14+1), Pb-Free, Tape and Reel; PartNumber: DS1805E-010+T&R; DatasheetVersion: Rev. 1; PackageVersion: Rev. L, 07/2010; PackageReference: U14+1; PackageDescription: 14-Pin Thin Shrink Small-Outline Package (U14+1), Body 5 x 4.4 mm, Pitch 0.65 mm; Supplier 1: Digi-Key; Supplier Part Number 1: DS1805E-010+T&R-ND; Supplier 2: Mouser; Supplier Part Number 2: 700-DS1805E-010T&R; Control Interface: 2-Wire Addressable; Mounting Technology: Surface Mount; Code_JEDEC: MO-153; ComponentLink1Description: Manufacturer URL; ComponentLink1URL: http://www.maximintegrated.com/; ComponentLink2Description: Datasheet; ComponentLink2URL: http://datasheets.maximintegrated.com/en/ds/DS1805.pdf; ComponentLink3Description: Package Specification; ComponentLink3URL: http://pdfserv.maximintegrated.com/package_dwgs/21-0066.PDF
footprint MAXM-U14+1_N (SOP, 14-Leads, Body 5x4.4mm, Pitch 0.65mm, IPC Medium Density)
footprint MAXM-U14+1_L (SOP, 14-Leads, Body 5x4.4mm, Pitch 0.65mm, IPC High Density)
footprint MAXM-U14+1_M (SOP, 14-Leads, Body 5x4.4mm, Pitch 0.65mm, IPC Low Density)
pins: 1 H1 "High End of Potentiometer", 2 L1 "Low End of Potentiometer", 3 W1 "Wiper Terminal of Potentiometer", 4 A2 (in) "Address Select Input", 5 A1 (in) "Address Select Input", 6 A0 (in) "Address Select Input", 7 GND (power) "Ground", 8 SCL (in) "Serial Clock Input", 9 SDA (io) "Serial Data I/O", 10 NC "No Connection", 11 NC "No Connection", 12 NC "No Connection", 13 NC "No Connection", 14 VCC (power) "3V/5V Power-Supply Input"

## DS1805E-010/T&R
designator U?
Addressable Digital Potentiometer with 2-Wire Addressable Control Interface, Volatile, Linear Taper, 256 Steps, -40 to 85 degC, 14-pin TSSOP (U14-1), Tape and Reel; PartNumber: DS1805E-010/T&R; DatasheetVersion: Rev. 1; PackageVersion: Rev. L, 07/2010; PackageReference: U14-1; PackageDescription: 14-Pin Thin Shrink Small-Outline Package (U14-1), Body 5 x 4.4 mm, Pitch 0.65 mm; Control Interface: 2-Wire Addressable; Mounting Technology: Surface Mount; Code_JEDEC: MO-153; ComponentLink1Description: Manufacturer URL; ComponentLink1URL: http://www.maximintegrated.com/; ComponentLink2Description: Datasheet; ComponentLink2URL: http://datasheets.maximintegrated.com/en/ds/DS1805.pdf; ComponentLink3Description: Package Specification; ComponentLink3URL: http://pdfserv.maximintegrated.com/package_dwgs/21-0066.PDF
footprint MAXM-U14-1_N (SOP, 14-Leads, Body 5x4.4mm, Pitch 0.65mm, IPC Medium Density)
footprint MAXM-U14-1_L (SOP, 14-Leads, Body 5x4.4mm, Pitch 0.65mm, IPC High Density)
footprint MAXM-U14-1_M (SOP, 14-Leads, Body 5x4.4mm, Pitch 0.65mm, IPC Low Density)
pins: 1 H1 "High End of Potentiometer", 2 L1 "Low End of Potentiometer", 3 W1 "Wiper Terminal of Potentiometer", 4 A2 (in) "Address Select Input", 5 A1 (in) "Address Select Input", 6 A0 (in) "Address Select Input", 7 GND (power) "Ground", 8 SCL (in) "Serial Clock Input", 9 SDA (io) "Serial Data I/O", 10 NC "No Connection", 11 NC "No Connection", 12 NC "No Connection", 13 NC "No Connection", 14 VCC (power) "3V/5V Power-Supply Input"

## DS1805Z-010
designator U?
Digital Potentiometer with 2-Wire Addressable Control Interface, Volatile, Linear Taper, 256 Steps, -40 to 85 degC, 14-pin SOIC(N) (S16-1); PartNumber: DS1805Z-010; DatasheetVersion: Rev. 1; PackageVersion: Rev. D, 10/2012; PackageReference: S16-1; PackageDescription: 16-Pin Small-Outline IC, Narrow (0.15in) (S16-1), Body 9.9 x 3.9 mm, Pitch 1.27 mm; Supplier 1: Mouser; Supplier Part Number 1: N/A; Control Interface: 2-Wire Addressable; Mounting Technology: Surface Mount; Code_JEDEC: MS012; ComponentLink1Description: Manufacturer URL; ComponentLink1URL: http://www.maximintegrated.com/; ComponentLink2Description: Datasheet; ComponentLink2URL: http://datasheets.maximintegrated.com/en/ds/DS1805.pdf; ComponentLink3Description: Package Specification; ComponentLink3URL: http://pdfserv.maximintegrated.com/package_dwgs/21-0041.PDF
footprint MAXM-S16-1_N (SOIC, 16-Leads, Body 9.9x3.9mm, Pitch 1.27mm, IPC Medium Density)
footprint MAXM-S16-1_L (SOIC, 16-Leads, Body 9.9x3.9mm, Pitch 1.27mm, IPC High Density)
footprint MAXM-S16-1_M (SOIC, 16-Leads, Body 9.9x3.9mm, Pitch 1.27mm, IPC Low Density)
pins: 1 H1 "High End of Potentiometer", 2 NC "No Connection", 3 L1 "Low End of Potentiometer", 4 W1 "Wiper Terminal of Potentiometer", 5 A2 (in) "Address Select Input", 6 A1 (in) "Address Select Input", 7 A0 (in) "Address Select Input", 8 GND (power) "Ground", 9 SCL (in) "Serial Clock Input", 10 SDA (io) "Serial Data I/O", 11 NC "No Connection", 12 NC "No Connection", 13 NC "No Connection", 14 NC "No Connection", 15 NC "No Connection", 16 VCC (power) "3V/5V Power-Supply Input"

## DS1805Z-010+
designator U?
Digital Potentiometer with 2-Wire Addressable Control Interface, Volatile, Linear Taper, 256 Steps, -40 to 85 degC, 16-pin SOIC (S16+1), Pb-Free; PartNumber: DS1805Z-010+; DatasheetVersion: Rev. 1; PackageVersion: Rev. D, 10/2012; PackageReference: S16+1; PackageDescription: 16-Pin Small-Outline IC, Narrow (0.15in) (S16-1), Body 9.9 x 3.9 mm, Pitch 1.27 mm; Supplier 1: Digi-Key; Supplier Part Number 1: DS1805Z-010+-ND; Supplier 2: Mouser; Supplier Part Number 2: 700-DS1805Z-010; Control Interface: 2-Wire Addressable; Mounting Technology: Surface Mount; Code_JEDEC: MS012; ComponentLink1Description: Manufacturer URL; ComponentLink1URL: http://www.maximintegrated.com/; ComponentLink2Description: Datasheet; ComponentLink2URL: http://datasheets.maximintegrated.com/en/ds/DS1805.pdf; ComponentLink3Description: Package Specification; ComponentLink3URL: http://pdfserv.maximintegrated.com/package_dwgs/21-0041.PDF
footprint MAXM-S16+1_N (SOIC, 16-Leads, Body 9.9x3.9mm, Pitch 1.27mm, IPC Medium Density)
footprint MAXM-S16+1_L (SOIC, 16-Leads, Body 9.9x3.9mm, Pitch 1.27mm, IPC High Density)
footprint MAXM-S16+1_M (SOIC, 16-Leads, Body 9.9x3.9mm, Pitch 1.27mm, IPC Low Density)
pins: 1 H1 "High End of Potentiometer", 2 NC "No Connection", 3 L1 "Low End of Potentiometer", 4 W1 "Wiper Terminal of Potentiometer", 5 A2 (in) "Address Select Input", 6 A1 (in) "Address Select Input", 7 A0 (in) "Address Select Input", 8 GND (power) "Ground", 9 SCL (in) "Serial Clock Input", 10 SDA (io) "Serial Data I/O", 11 NC "No Connection", 12 NC "No Connection", 13 NC "No Connection", 14 NC "No Connection", 15 NC "No Connection", 16 VCC (power) "3V/5V Power-Supply Input"

## DS1805Z-010+T&R
designator U?
Digital Potentiometer with 2-Wire Addressable Control Interface, Volatile, Linear Taper, 256 Steps, -40 to 85 degC, 16-pin SOIC(N) (S16+1), Pb-Free, Tape and Reel; PartNumber: DS1805Z-010+T&R; DatasheetVersion: Rev. 1; PackageVersion: Rev. D, 10/2012; PackageReference: S16+1; PackageDescription: 16-Pin Small-Outline IC, Narrow (0.15in) (S16-1), Body 9.9 x 3.9 mm, Pitch 1.27 mm; Supplier 1: Mouser; Supplier Part Number 1: N/A; Control Interface: 2-Wire Addressable; Mounting Technology: Surface Mount; Code_JEDEC: MS012; ComponentLink1Description: Manufacturer URL; ComponentLink1URL: http://www.maximintegrated.com/; ComponentLink2Description: Datasheet; ComponentLink2URL: http://datasheets.maximintegrated.com/en/ds/DS1805.pdf; ComponentLink3Description: Package Specification; ComponentLink3URL: http://pdfserv.maximintegrated.com/package_dwgs/21-0041.PDF
footprint MAXM-S16+1_N (SOIC, 16-Leads, Body 9.9x3.9mm, Pitch 1.27mm, IPC Medium Density)
footprint MAXM-S16+1_L (SOIC, 16-Leads, Body 9.9x3.9mm, Pitch 1.27mm, IPC High Density)
footprint MAXM-S16+1_M (SOIC, 16-Leads, Body 9.9x3.9mm, Pitch 1.27mm, IPC Low Density)
pins: 1 H1 "High End of Potentiometer", 2 NC "No Connection", 3 L1 "Low End of Potentiometer", 4 W1 "Wiper Terminal of Potentiometer", 5 A2 (in) "Address Select Input", 6 A1 (in) "Address Select Input", 7 A0 (in) "Address Select Input", 8 GND (power) "Ground", 9 SCL (in) "Serial Clock Input", 10 SDA (io) "Serial Data I/O", 11 NC "No Connection", 12 NC "No Connection", 13 NC "No Connection", 14 NC "No Connection", 15 NC "No Connection", 16 VCC (power) "3V/5V Power-Supply Input"

## DS1805Z-010/T&R
designator U?
Digital Potentiometer with 2-Wire Addressable Control Interface, Volatile, Linear Taper, 256 Steps, -40 to 85 degC, 16-pin SOIC(N) (S16+1), Tape and Reel; PartNumber: DS1805Z-010/T&R; DatasheetVersion: Rev. 1; PackageVersion: Rev. D, 10/2012; PackageReference: S16-1; PackageDescription: 16-Pin Small-Outline IC, Narrow (0.15in) (S16-1), Body 9.9 x 3.9 mm, Pitch 1.27 mm; Supplier 1: Mouser; Supplier Part Number 1: N/A; Control Interface: 2-Wire Addressable; Mounting Technology: Surface Mount; Code_JEDEC: MS012; ComponentLink1Description: Manufacturer URL; ComponentLink1URL: http://www.maximintegrated.com/; ComponentLink2Description: Datasheet; ComponentLink2URL: http://datasheets.maximintegrated.com/en/ds/DS1805.pdf; ComponentLink3Description: Package Specification; ComponentLink3URL: http://pdfserv.maximintegrated.com/package_dwgs/21-0041.PDF
footprint MAXM-S16-1_N (SOIC, 16-Leads, Body 9.9x3.9mm, Pitch 1.27mm, IPC Medium Density)
footprint MAXM-S16-1_L (SOIC, 16-Leads, Body 9.9x3.9mm, Pitch 1.27mm, IPC High Density)
footprint MAXM-S16-1_M (SOIC, 16-Leads, Body 9.9x3.9mm, Pitch 1.27mm, IPC Low Density)
pins: 1 H1 "High End of Potentiometer", 2 NC "No Connection", 3 L1 "Low End of Potentiometer", 4 W1 "Wiper Terminal of Potentiometer", 5 A2 (in) "Address Select Input", 6 A1 (in) "Address Select Input", 7 A0 (in) "Address Select Input", 8 GND (power) "Ground", 9 SCL (in) "Serial Clock Input", 10 SDA (io) "Serial Data I/O", 11 NC "No Connection", 12 NC "No Connection", 13 NC "No Connection", 14 NC "No Connection", 15 NC "No Connection", 16 VCC (power) "3V/5V Power-Supply Input"

## DS1806-010
designator U?
Digital Sextet Potentiometer with 3-Wire Serial Control Interface, Volatile, Linear Taper, 64 Steps, -40 to 85 degC, 20-pin PDIP (P20-3); PartNumber: DS1806-010; DatasheetVersion: Rev. 1; PackageVersion: Rev. E, 04/2011; PackageReference: P20-3; PackageDescription: 20-Pin Plastic Dual-In-Line, Narrow (0.3in) (P20-3), Body 26.16 x 6.985 mm, Pitch 2.54 mm; Supplier 1: Digi-Key; Supplier Part Number 1: DS1806-010-ND; Supplier 2: Mouser; Supplier Part Number 2: N/A; Control Interface: 3-Wire Serial; Mounting Technology: Through Hole; Code_JEDEC: MS001-XX; ComponentLink1Description: Manufacturer URL; ComponentLink1URL: http://www.maximintegrated.com/; ComponentLink2Description: Datasheet; ComponentLink2URL: http://datasheets.maximintegrated.com/en/ds/DS1806.pdf; ComponentLink3Description: Package Specification; ComponentLink3URL: http://pdfserv.maximintegrated.com/package_dwgs/21-0043.PDF
footprint MAXM-P20-3 (DIP, 20-Leads, Body 26.16x6.985mm, Pitch 2.54mm)
pins: 1 W1 "Wiper Terminal of Pot", 2 W2 "Wiper Terminal of Pot", 3 L1-3 "Low Terminal Pots 1 through 3", 4 W3 "Wiper Terminal of Pot", 5 W4 "Wiper Terminal of Pot", 6 L4-6 "Low Terminal Pots 4 through 6", 7 W6 "Wiper Terminal of Pot", 8 ~{RST} (in) "Serial Port Reset Input", 9 CLK (in) "Serial Port Clock Input", 10 GND (power) "Ground", 11 COUT (out) "Cascade Data Output", 12 DIN (in) "Serial Port Data Input", 13 H6 "High End terminal of Pot", 14 W5 "Wiper Terminal of Pot", 15 H5 "High End terminal of Pot", 16 H4 "High End terminal of Pot", 17 H3 "High End terminal of Pot", 18 H2 "High End terminal of Pot", 19 H1 "High End terminal of Pot", 20 VCC (power) "3V or 5V Supply"

## DS1806-010+
designator U?
Digital Sextet Potentiometer with 3-Wire Serial Control Interface, Volatile, Linear Taper, 64 Steps, -40 to 85 degC, 20-pin PDIP (P20+3), Pb-Free; PartNumber: DS1806-010+; DatasheetVersion: Rev. 1; PackageVersion: Rev. E, 04/2011; PackageReference: P20+3; PackageDescription: 20-Pin Plastic Dual-In-Line, Narrow (0.3in) (P20+3), Body 26.16 x 6.985 mm, Pitch 2.54 mm; Supplier 1: Digi-Key; Supplier Part Number 1: DS1806-010+-ND; Supplier 2: Mouser; Supplier Part Number 2: 700-DS1806-010; Control Interface: 3-Wire Serial; Mounting Technology: Through Hole; Code_JEDEC: MS001-XX; ComponentLink1Description: Manufacturer URL; ComponentLink1URL: http://www.maximintegrated.com/; ComponentLink2Description: Datasheet; ComponentLink2URL: http://datasheets.maximintegrated.com/en/ds/DS1806.pdf; ComponentLink3Description: Package Specification; ComponentLink3URL: http://pdfserv.maximintegrated.com/package_dwgs/21-0043.PDF
footprint MAXM-P20+3 (DIP, 20-Leads, Body 26.16x6.985mm, Pitch 2.54mm)
pins: 1 W1 "Wiper Terminal of Pot", 2 W2 "Wiper Terminal of Pot", 3 L1-3 "Low Terminal Pots 1 through 3", 4 W3 "Wiper Terminal of Pot", 5 W4 "Wiper Terminal of Pot", 6 L4-6 "Low Terminal Pots 4 through 6", 7 W6 "Wiper Terminal of Pot", 8 ~{RST} (in) "Serial Port Reset Input", 9 CLK (in) "Serial Port Clock Input", 10 GND (power) "Ground", 11 COUT (out) "Cascade Data Output", 12 DIN (in) "Serial Port Data Input", 13 H6 "High End terminal of Pot", 14 W5 "Wiper Terminal of Pot", 15 H5 "High End terminal of Pot", 16 H4 "High End terminal of Pot", 17 H3 "High End terminal of Pot", 18 H2 "High End terminal of Pot", 19 H1 "High End terminal of Pot", 20 VCC (power) "3V or 5V Supply"